# Altium schematic symbol library Milandr.SchLib: 4 symbols
Pins are listed as number, name and electrical type; pins without a type are passive.

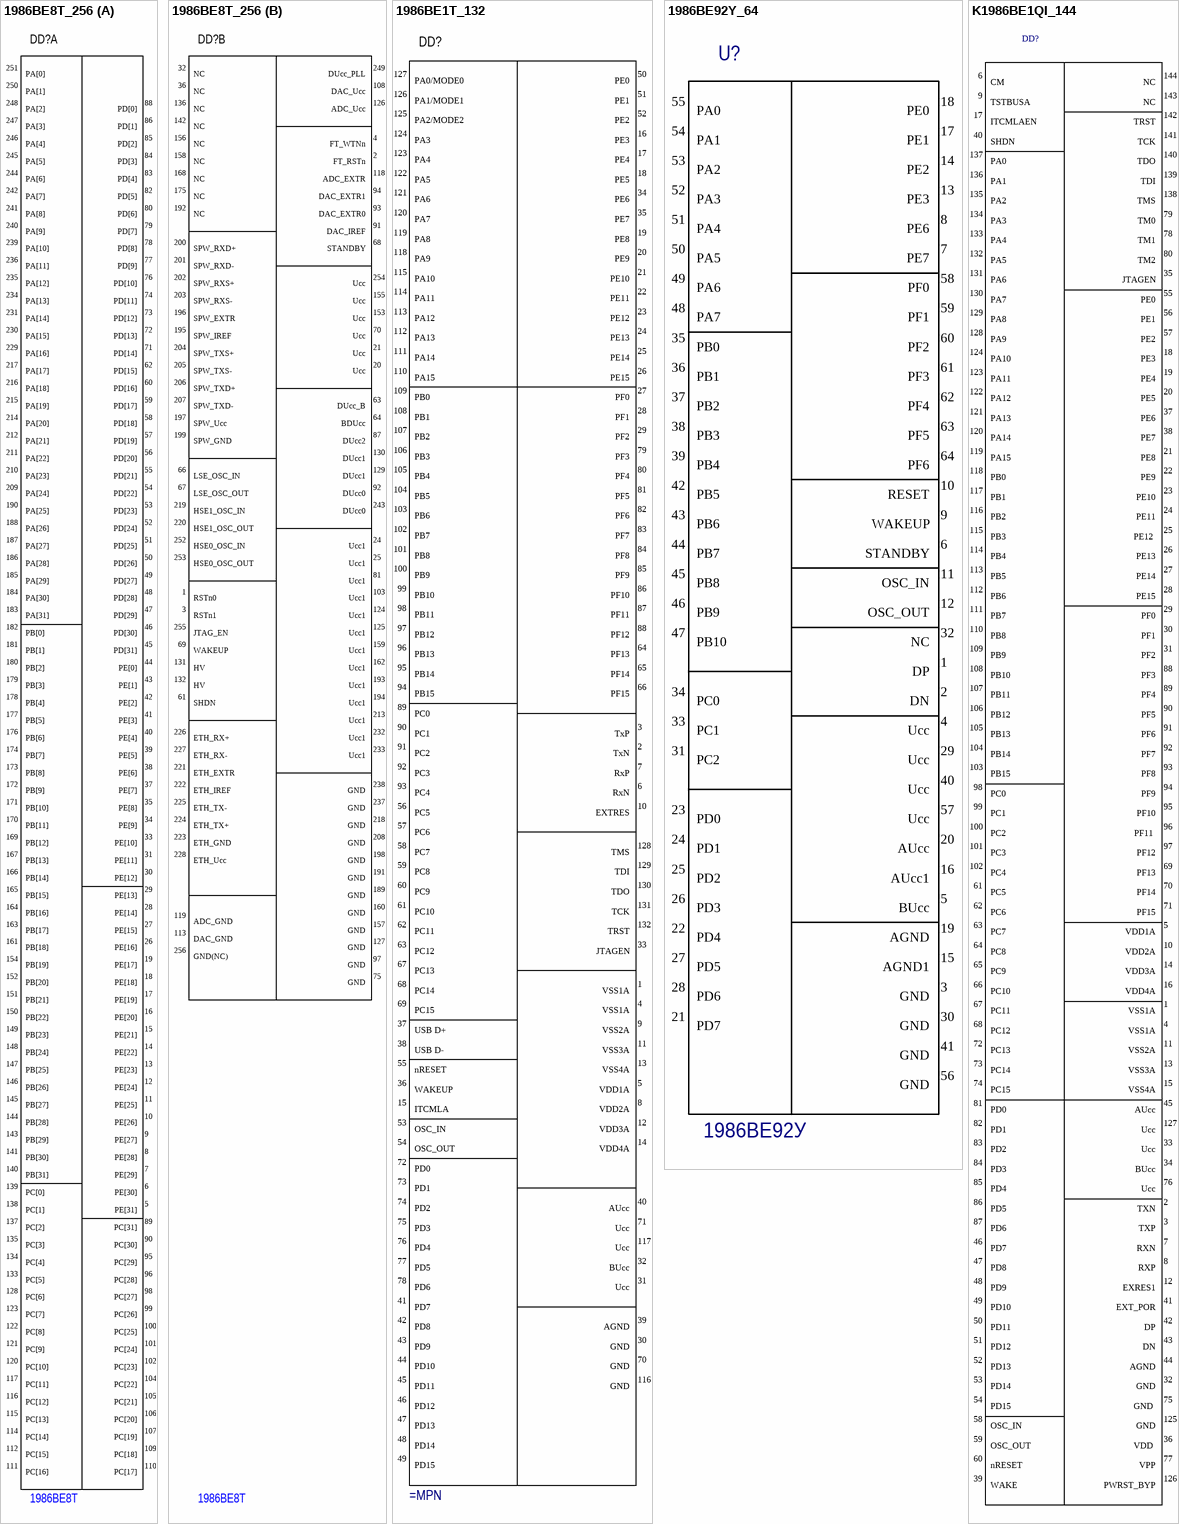
[diagram p0: symbols 1986BE8T_256 to K1986BE1QI_144]

## 1986BE8T_256
designator DD?, comment 1986BE8T
part A pins: 5 PE[31], 6 PE[30], 7 PE[29], 8 PE[28], 9 PE[27], 10 PE[26], 11 PE[25], 12 PE[24], 13 PE[23], 14 PE[22], 15 PE[21], 16 PE[20], 17 PE[19], 18 PE[18], 19 PE[17], 26 PE[16], 27 PE[15], 28 PE[14], 29 PE[13], 30 PE[12], 31 PE[11], 33 PE[10], 34 PE[9], 35 PE[8], 37 PE[7], 38 PE[6], 39 PE[5], 40 PE[4], 41 PE[3], 42 PE[2], 43 PE[1], 44 PE[0], 45 PD[31], 46 PD[30], 47 PD[29], 48 PD[28], 49 PD[27], 50 PD[26], 51 PD[25], 52 PD[24], 53 PD[23], 54 PD[22], 55 PD[21], 56 PD[20], 57 PD[19], 58 PD[18], 59 PD[17], 60 PD[16], 62 PD[15], 71 PD[14], 72 PD[13], 73 PD[12], 74 PD[11], 76 PD[10], 77 PD[9], 78 PD[8], 79 PD[7], 80 PD[6], 82 PD[5], 83 PD[4], 84 PD[3], 85 PD[2], 86 PD[1], 88 PD[0], 89 PC[31], 90 PC[30], 95 PC[29], 96 PC[28], 98 PC[27], 99 PC[26], 100 PC[25], 101 PC[24], 102 PC[23], 104 PC[22], 105 PC[21], 106 PC[20], 107 PC[19], 109 PC[18], 110 PC[17], 111 PC[16], 112 PC[15], 114 PC[14], 115 PC[13], 116 PC[12], 117 PC[11], 120 PC[10], 121 PC[9], 122 PC[8], 123 PC[7], 128 PC[6], 133 PC[5], 134 PC[4], 135 PC[3], 137 PC[2], 138 PC[1], 139 PC[0], 140 PB[31], 141 PB[30], 143 PB[29], 144 PB[28], 145 PB[27], 146 PB[26], 147 PB[25], 148 PB[24], 149 PB[23], 150 PB[22], 151 PB[21], 152 PB[20], 154 PB[19], 161 PB[18], 163 PB[17], 164 PB[16], 165 PB[15], 166 PB[14], 167 PB[13], 169 PB[12], 170 PB[11], 171 PB[10], 172 PB[9], 173 PB[8], 174 PB[7], 176 PB[6], 177 PB[5], 178 PB[4], 179 PB[3], 180 PB[2], 181 PB[1], 182 PB[0], 183 PA[31], 184 PA[30], 185 PA[29], 186 PA[28], 187 PA[27], 188 PA[26], 190 PA[25], 209 PA[24], 210 PA[23], 211 PA[22], 212 PA[21], 214 PA[20], 215 PA[19], 216 PA[18], 217 PA[17], 229 PA[16], 230 PA[15], 231 PA[14], 234 PA[13], 235 PA[12], 236 PA[11], 239 PA[10], 240 PA[9], 241 PA[8], 242 PA[7], 244 PA[6], 245 PA[5], 246 PA[4], 247 PA[3], 248 PA[2], 250 PA[1], 251 PA[0]
part B pins: 1 RSTn0, 2 FT_RSTn, 3 RSTn1, 4 FT_WTNn, 20 Ucc, 21 Ucc, 24 Ucc1, 25 Ucc1, 32 NC, 36 NC, 61 SHDN, 63 DUcc_B, 64 BDUcc, 66 LSE_OSC_IN, 67 LSE_OSC_OUT, 68 STANDBY, 69 WAKEUP, 70 Ucc, 75 GND, 81 Ucc1, 87 DUcc2, 91 DAC_IREF, 92 DUcc0, 93 DAC_EXTR0, 94 DAC_EXTR1, 97 GND, 103 Ucc1, 108 DAC_Ucc, 113 DAC_GND, 118 ADC_EXTR, 119 ADC_GND, 124 Ucc1, 125 Ucc1, 126 ADC_Ucc, 127 GND, 129 DUcc1, 130 DUcc1, 131 HV, 132 HV, 136 NC, 142 NC, 153 Ucc, 155 Ucc, 156 NC, 157 GND, 158 NC, 159 Ucc1, 160 GND, 162 Ucc1, 168 NC, 175 NC, 189 GND, 191 GND, 192 NC, 193 Ucc1, 194 Ucc1, 195 SPW_IREF, 196 SPW_EXTR, 197 SPW_Ucc, 198 GND, 199 SPW_GND, 200 SPW_RXD+, 201 SPW_RXD-, 202 SPW_RXS+, 203 SPW_RXS-, 204 SPW_TXS+, 205 SPW_TXS-, 206 SPW_TXD+, 207 SPW_TXD-, 208 GND, 213 Ucc1, 218 GND, 219 HSE1_OSC_IN, 220 HSE1_OSC_OUT, 221 ETH_EXTR, 222 ETH_IREF, 223 ETH_GND, 224 ETH_TX+, 225 ETH_TX-, 226 ETH_RX+, 227 ETH_RX-, 228 ETH_Ucc, 232 Ucc1, 233 Ucc1, 237 GND, 238 GND, 243 DUcc0, 249 DUcc_PLL, 252 HSE0_OSC_IN, 253 HSE0_OSC_OUT, 254 Ucc, 255 JTAG_EN, 256 GND(NC)

## 1986ВЕ1Т_132
designator DD?
32-разрядный RISC-микроконтроллер для авиационных применений
pins: 1 VSS1A, 2 TxN "PHY Ethernet", 3 TxP "PHY Ethernet", 4 VSS1A, 5 VDD1A, 6 RxN "PHY Ethernet", 7 RxP "PHY Ethernet", 8 VDD2A, 9 VSS2A, 10 EXTRES "PHY Ethernet", 11 VSS3A, 12 VDD3A, 13 VSS4A, 14 VDD4A, 15 ITCMLA, 16 PE3, 17 PE4, 18 PE5, 19 PE8, 20 PE9, 21 PE10, 22 PE11, 23 PE12, 24 PE13, 25 PE14, 26 PE15, 27 PF0, 28 PF1, 29 PF2, 30 GND, 31 Ucc, 32 BUcc, 33 JTAGEN "JTAG", 34 PE6, 35 PE7, 36 WAKEUP, 37 USB D+ "USB", 38 USB D- "USB", 39 AGND, 40 AUcc, 41 PD7, 42 PD8, 43 PD9, 44 PD10, 45 PD11, 46 PD12, 47 PD13, 48 PD14, 49 PD15, 50 PE0, 51 PE1, 52 PE2, 53 OSC_IN, 54 OSC_OUT, 55 nRESET, 56 PC5, 57 PC6, 58 PC7, 59 PC8, 60 PC9, 61 PC10, 62 PC11, 63 PC12, 64 PF13, 65 PF14, 66 PF15, 67 PC13, 68 PC14, 69 PC15, 70 GND, 71 Ucc, 72 PD0, 73 PD1, 74 PD2, 75 PD3, 76 PD4, 77 PD5, 78 PD6, 79 PF3, 80 PF4, 81 PF5, 82 PF6, 83 PF7, 84 PF8, 85 PF9, 86 PF10, 87 PF11, 88 PF12, 89 PC0, 90 PC1, 91 PC2, 92 PC3, 93 PC4, 94 PB15, 95 PB14, 96 PB13, 97 PB12, 98 PB11, 99 PB10, 100 PB9, 101 PB8, 102 PB7, 103 PB6, 104 PB5, 105 PB4, 106 PB3, 107 PB2, 108 PB1, 109 PB0, 110 PA15, 111 PA14, 112 PA13, 113 PA12, 114 PA11, 115 PA10, 116 GND, 117 Ucc, 118 PA9, 119 PA8, 120 PA7, 121 PA6, 122 PA5, 123 PA4, 124 PA3, 125 PA2/MODE2, 126 PA1/MODE1, 127 PA0/MODE0, 128 TMS "JTAG", 129 TDI "JTAG", 130 TDO "JTAG", 131 TCK "JTAG", 132 TRST "JTAG"

## 1986ВЕ92Y_64
designator U?, comment 1986ВЕ92У
SRAM 128K RAM 32K 64Pin
pins: 1 DP, 2 DN, 3 GND, 4 Ucc, 5 BUcc, 6 STANDBY, 7 PE7, 8 PE6, 9 WAKEUP, 10 RESET, 11 OSC_IN, 12 OSC_OUT, 13 PE3, 14 PE2, 15 AGND1, 16 AUcc1, 17 PE1, 18 PE0, 19 AGND, 20 AUcc, 21 PD7, 22 PD4, 23 PD0, 24 PD1, 25 PD2, 26 PD3, 27 PD5, 28 PD6, 29 Ucc, 30 GND, 31 PC2, 32 NC, 33 PC1, 34 PC0, 35 PB0, 36 PB1, 37 PB2, 38 PB3, 39 PB4, 40 Ucc, 41 GND, 42 PB5, 43 PB6, 44 PB7, 45 PB8, 46 PB9, 47 PB10, 48 PA7, 49 PA6, 50 PA5, 51 PA4, 52 PA3, 53 PA2, 54 PA1, 55 PA0, 56 GND, 57 Ucc, 58 PF0, 59 PF1, 60 PF2, 61 PF3, 62 PF4, 63 PF5, 64 PF6

## K1986BE1QI_144
designator DD?
pins: 1 VSS1A, 2 TXN, 3 TXP, 4 VSS1A, 5 VDD1A, 6 CM, 7 RXN, 8 RXP, 9 TSTBUSA, 10 VDD2A, 11 VSS2A, 12 EXRES1, 13 VSS3A, 14 VDD3A, 15 VSS4A, 16 VDD4A, 17 ITCMLAEN, 18 PE3, 19 PE4, 20 PE5, 21 PE8, 22 PE9, 23 PE10, 24 PE11, 25 PE12 , 26 PE13, 27 PE14, 28 PE15, 29 PF0, 30 PF1, 31 PF2, 32 GND, 33 Ucc, 34 BUcc, 35 JTAGEN, 36 VDD , 37 PE6, 38 PE7, 39 WAKE, 40 SHDN, 41 EXT_POR, 42 DP, 43 DN, 44 AGND, 45 AUcc, 46 PD7, 47 PD8, 48 PD9, 49 PD10, 50 PD11, 51 PD12, 52 PD13, 53 PD14, 54 PD15, 55 PE0, 56 PE1, 57 PE2, 58 OSC_IN, 59 OSC_OUT, 60 nRESET, 61 PC5, 62 PC6, 63 PC7, 64 PC8, 65 PC9, 66 PC10, 67 PC11, 68 PC12, 69 PF13, 70 PF14, 71 PF15, 72 PC13, 73 PC14, 74 PC15, 75 GND , 76 Ucc, 77 VPP, 78 TM1, 79 TM0, 80 TM2, 81 PD0, 82 PD1, 83 PD2, 84 PD3, 85 PD4, 86 PD5, 87 PD6, 88 PF3, 89 PF4, 90 PF5, 91 PF6, 92 PF7, 93 PF8, 94 PF9, 95 PF10, 96 PF11 , 97 PF12, 98 PC0, 99 PC1, 100 PC2, 101 PC3, 102 PC4, 103 PB15, 104 PB14, 105 PB13, 106 PB12, 107 PB11, 108 PB10, 109 PB9, 110 PB8, 111 PB7, 112 PB6, 113 PB5, 114 PB4, 115 PB3, 116 PB2, 117 PB1, 118 PB0, 119 PA15, 120 PA14, 121 PA13, 122 PA12, 123 PA11, 124 PA10, 125 GND, 126 PWRST_BYP, 127 Ucc, 128 PA9, 129 PA8, 130 PA7, 131 PA6, 132 PA5, 133 PA4, 134 PA3, 135 PA2, 136 PA1, 137 PA0, 138 TMS, 139 TDI, 140 TDO, 141 TCK, 142 TRST, 143 NC, 144 NC